# Altium footprint library TestFootpads.PcbLib: 1 footprints
Each footprint in its own frame and in the unit in brackets; x right, y up, seen from the top. Pads: shape width x height; smd on the part's side, far side on the other; paste and mask are expansions set on the pad; w line width, h text height; cw(c..) or ccw(c..) is an arc to the next point about the centre after c.
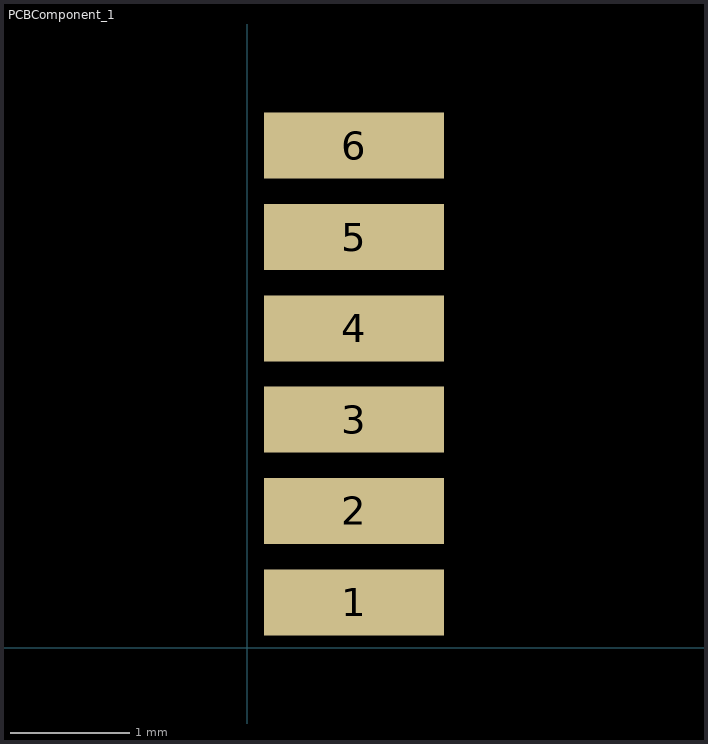
[diagram p0: the footprint, top view; thin cyan lines are the x and y axes]

## PCBComponent_1 [mm]
pads (6):
  rect 1.5x0.55 smd: 1(0.889,0.381) 2(0.889,1.143) 3(0.889,1.905) 4(0.889,2.667) 5(0.889,3.429) 6(0.889,4.191)